# EAGLE library part DG4051E (library DG4051E)
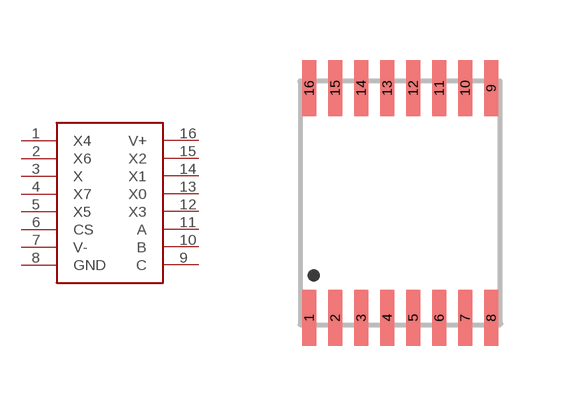
[diagram p0: symbol with the pads of DG4051E; footprint DG4051E]

Designator prefix -

## DG4051E  [DG4051E]
1  X4
2  X6
3  X
4  X7
5  X5
6  CS
7  V-
8  GND
9  C
10  B
11  A
12  X3
13  X0
14  X1
15  X2
16  V+

## Footprint DG4051E (pad centres in mm)
smd 0.35 x 1.4: 1 -2.45,-2.875; 2 -1.8,-2.875; 3 -1.15,-2.875; 4 -0.5,-2.875; 5 0.15,-2.875; 6 0.8,-2.875; 7 1.45,-2.875; 8 2.1,-2.875; 9 2.1,2.875; 10 1.45,2.875; 11 0.8,2.875; 12 0.15,2.875; 13 -0.5,2.875; 14 -1.15,2.875; 15 -1.8,2.875; 16 -2.45,2.875